# Altium footprint library WREL_AD10_Ben.PcbLib: 135 footprints (part 6 of 9)
Each footprint in its own frame and in the unit in brackets; x right, y up, seen from the top. Pads: shape width x height; smd on the part's side, far side on the other; paste and mask are expansions set on the pad; w line width, h text height; cw(c..) or ccw(c..) is an arc to the next point about the centre after c.
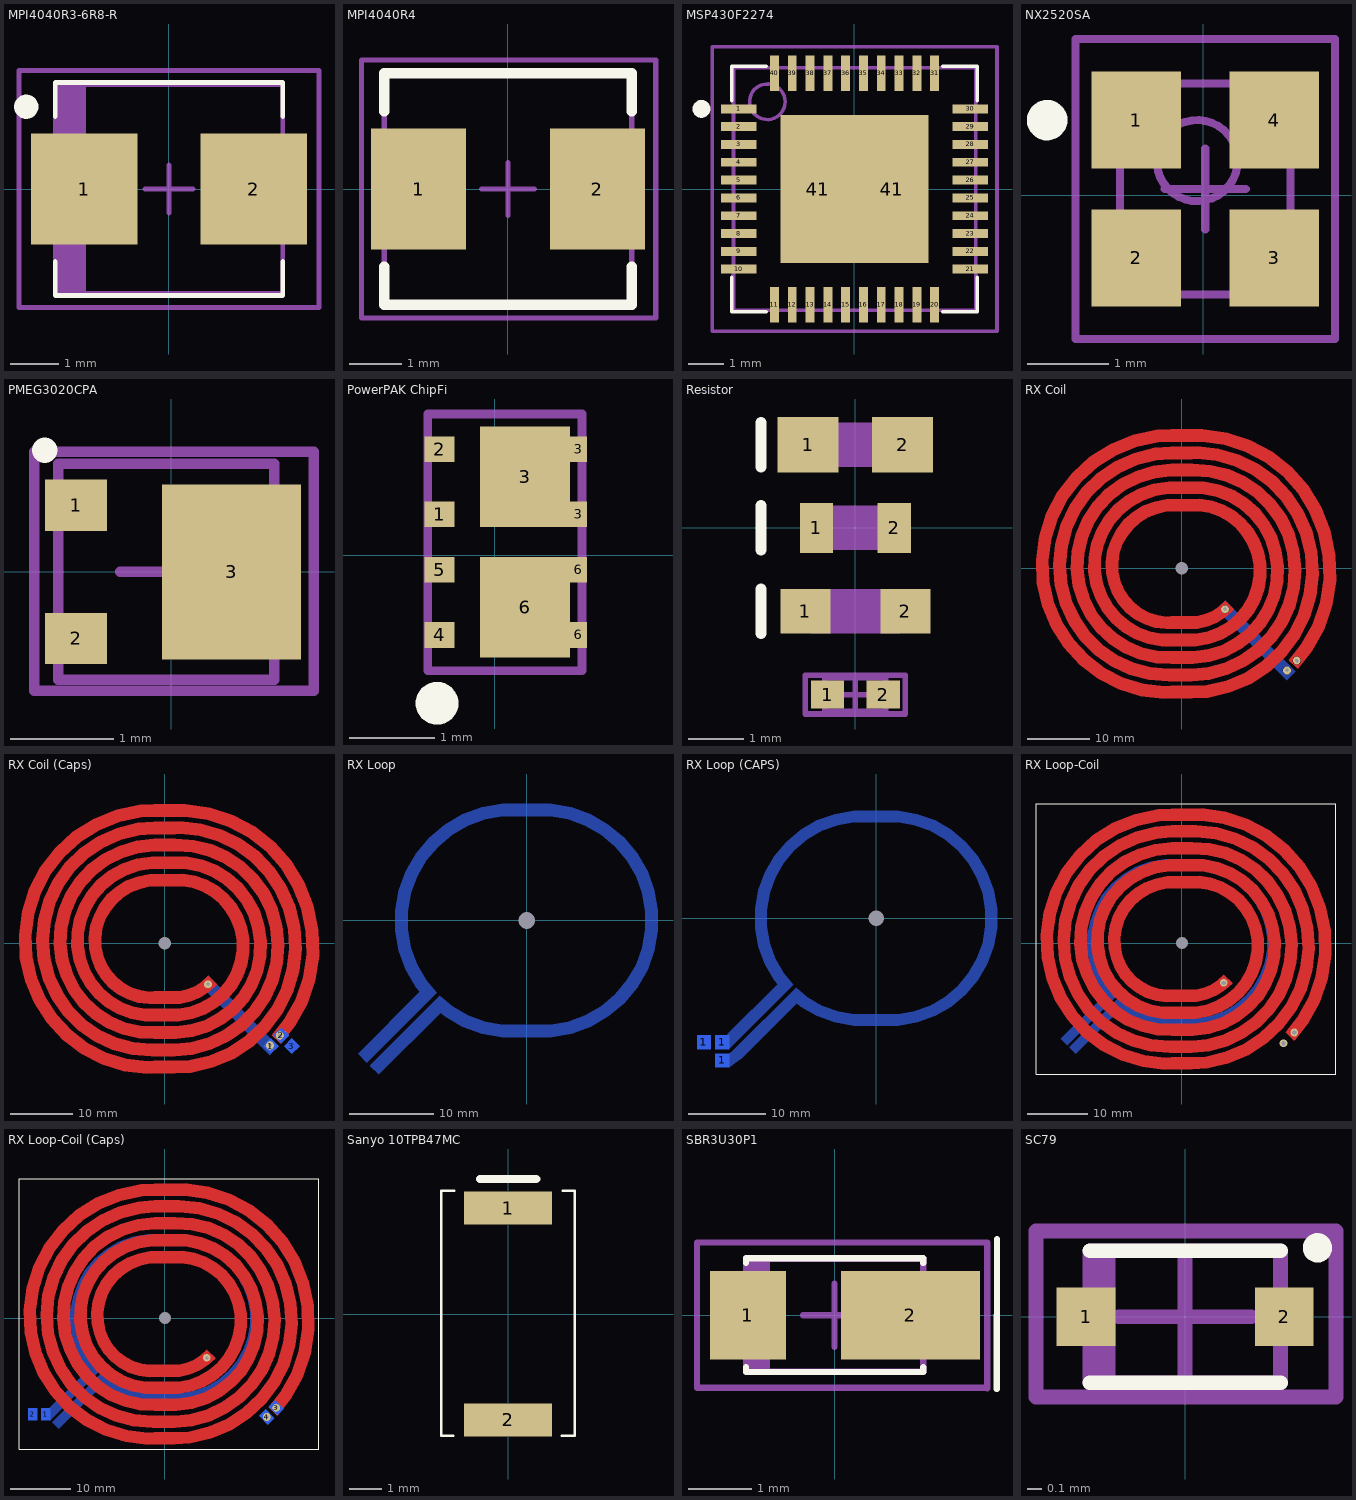
[diagram p5: the footprints below, top view; thin cyan lines are the x and y axes]

## MPI4040R3-6R8-R [mm] "INDUCTOR 6.8UH 2A 2 PAD SMD"
height 1.85
pads (2):
  rect 2.2x2.3 smd: 1(-1.75,0) 2(1.75,0)
Top Overlay:
  circle w0.25: c-2.95,1.7 r0.125
  lines w0.1: -2.35,-1.5 -2.35,-2.2 2.35,-2.2 2.35,-1.5 ; -2.35,1.5 -2.35,2.2 2.35,2.2 2.35,1.5
Mechanical 13:
  rectangle: -2.35,-2.155 -1.718,2.155
  lines w0.1: -2.35,-2.155 2.35,-2.155 2.35,2.155 -2.35,2.155 -2.35,-2.155
Mechanical 15:
  lines w0.1: -0.5,0 0.5,0 ; 0,-0.5 0,0.5 ; -3.1,-2.45 3.1,-2.45 3.1,2.45 -3.1,2.45 -3.1,-2.45
3D body: height 1.85, standoff 0, extent -2.35,-2.155 2.35,2.155

## MPI4040R4 [mm] "MPI4040R4"
height 2
pads (2):
  rect 1.8x2.3 smd: 1(-1.7,0) 2(1.7,0)
Top Overlay:
  lines w0.2: -2.35,-1.475 -2.35,-2.2 2.35,-2.2 2.35,-1.475 ; -2.35,1.475 -2.35,2.2 2.35,2.2 2.35,1.475
Mechanical 13:
  lines w0.1: -2.35,-2.155 2.35,-2.155 2.35,2.155 -2.35,2.155 -2.35,-2.155
Mechanical 15:
  lines w0.1: -0.5,0 0.5,0 ; 0,-0.5 0,0.5 ; -2.781,-2.45 2.807,-2.45 2.807,2.45 -2.781,2.45 -2.781,-2.45
3D body: height 2, standoff 0, extent -2.35,-2.155 2.35,2.155

## MSP430F2274 [mm]
pads (48):
  rect 1x0.25 smd: 1(-3.237,2.25) 2(-3.237,1.75) 3(-3.237,1.25) 4(-3.237,0.75) 5(-3.237,0.25) 6(-3.237,-0.25) 7(-3.237,-0.75) 8(-3.237,-1.25) 9(-3.237,-1.75) 10(-3.237,-2.25) 21(3.263,-2.25) 22(3.263,-1.75) 23(3.263,-1.25) 24(3.263,-0.75) 25(3.263,-0.25) 26(3.263,0.25) 27(3.263,0.75) 28(3.263,1.25) 29(3.263,1.75) 30(3.263,2.25)
  rect 0.25x1 smd: 11(-2.237,-3.25) 12(-1.737,-3.25) 13(-1.237,-3.25) 14(-0.737,-3.25) 15(-0.237,-3.25) 16(0.263,-3.25) 17(0.763,-3.25) 18(1.263,-3.25) 19(1.763,-3.25) 20(2.263,-3.25) 31(2.263,3.25) 32(1.763,3.25) 33(1.263,3.25) 34(0.763,3.25) 35(0.263,3.25) 36(-0.237,3.25) 37(-0.737,3.25) 38(-1.237,3.25) 39(-1.737,3.25) 40(-2.237,3.25)
  rect 2.075x4.15 smd: 41(-1.025,0) 41(1.05,0)
  rect 2.075x0 smd: 41(-1.025,0) 45(1.05,0)
  rect 0x2.075 smd: 43(0.013,1.038) 44(0.013,1.038) 47(0.013,-1.037) 48(0.013,-1.037)
Top Overlay:
  circle w0.25: c-4.287,2.25 r0.125
  lines w0.1: -3.437,-2.475 -3.437,-3.45 -2.462,-3.45 ; -3.437,2.475 -3.437,3.45 -2.462,3.45 ; 2.488,-3.45 3.463,-3.45 3.463,-2.475 ; 2.488,3.45 3.463,3.45 3.463,2.475
Mechanical 13:
  circle w0.1: c-2.437,2.45 r0.5
  lines w0.1: -3.387,-3.4 3.413,-3.4 3.413,3.4 -3.387,3.4 -3.387,-3.4
Mechanical 15:
  lines w0.1: -0.487,0 0.513,0 ; 0.013,-0.5 0.013,0.5 ; -3.987,-4 4.013,-4 4.013,4 -3.987,4 -3.987,-4
3D body: height 0.63, standoff 0.3, extent -3.387,-3.4 3.413,3.4

## NX2520SA [mm]
pads (4):
  rect 1.1x1.2 smd: 1(-0.825,0.926) 2(-0.825,-0.774) 3(0.875,-0.774) 4(0.875,0.926)
Top Overlay:
  circle w0.25: c-1.925,0.926 r0.125
Mechanical 13:
  circle w0.1: c-0.075,0.426 r0.5
  lines w0.1: -1.025,-1.224 -1.025,1.376 1.075,1.376 1.075,-1.224 -1.025,-1.224
Mechanical 15:
  lines w0.1: -0.475,0.076 0.525,0.076 ; 0.025,-0.424 0.025,0.576 ; -1.575,-1.774 -1.575,1.926 1.625,1.926 1.625,-1.774 -1.575,-1.774
3D body: height 0.65, standoff 0, extent -1.025,-1.224 1.075,1.376

## PMEG3020CPA [mm] "2 A low VF dual MEGA Schottky barrier rectifier"
height 0.65
pads (3):
  rect 0.6x0.5 smd: 1(-0.927,0.648) 2(-0.927,-0.648)
  rect 1.35x1.7 smd: 3(0.584,0)
Top Overlay:
  lines w0.25: -1.232,1.181 ccw(c-1.357,1.183) -1.232,1.183
Mechanical 13:
  lines w0.1: -1.1,-1.05 1,-1.05 1,1.05 -1.1,1.05 -1.1,-1.05
Mechanical 15:
  lines w0.1: -0.5,0 0.5,0 ; 0,-0.5 0,0.5 ; -1.333,-1.156 1.384,-1.156 1.384,1.168 -1.333,1.168 -1.333,-1.156
3D body: height 0.65, standoff 0, extent -1.1,-1.05 1,1.05

## PowerPAK ChipFi [mm] "PowerPAK ChipFET (Dual)"
pads (10):
  rect 0.35x0.3 smd: 1(-0.643,0.476) 2(-0.643,1.236) 4(-0.643,-0.932) 5(-0.643,-0.172)
  rect 1.05x1.175 smd: 3(0.356,0.913) 6(0.356,-0.61)
  rect 0.2x0.3 smd: 3(0.98,0.476) 3(0.98,1.236) 6(0.98,-0.932) 6(0.98,-0.172)
Top Overlay:
  circle w0.25: c-0.673,-1.731 r0.125
Mechanical 13:
  lines w0.1: -0.779,-1.352 -0.779,1.647 1.021,1.647 1.021,-1.352 -0.779,-1.352
3D body: height 1.1, standoff 0, extent -0.769,-1.358 1.025,1.636

## Resistor [mm]
pads (8):
  rect 0.9x0.8 smd: 1(-0.9,-1.5) 2(0.9,-1.5)
  rect 1.1x1 smd: 1(-0.85,1.5) 2(0.85,1.5)
  rect 0.6x0.9 smd: 1(-0.7,0) 2(0.7,0)
  rect 0.6x0.5 smd: 1(-0.5,-3) 2(0.5,-3)
Top Overlay:
  lines w0.2: -1.7,-1.9 -1.7,-1.1 ; -1.7,-0.4 -1.7,0.4 ; -1.7,1.1 -1.7,1.9
Mechanical 13:
  lines w0.1: -0.55,-3.3 0.55,-3.3 0.55,-2.7 -0.55,-2.7 -0.55,-3.3
Mechanical 15:
  rectangle: -0.8,-1.9 0.8,-1.1
  rectangle: -0.8,-0.4 0.8,0.4
  rectangle: -0.8,1.1 0.8,1.9
  lines w0.1: -0.3,-3 0.3,-3 ; 0,-3.3 0,-2.7 ; -0.9,-3.35 0.9,-3.35 0.9,-2.65 -0.9,-2.65 -0.9,-3.35
3D body: height 1.3, standoff 0, extent -0.55,-3.3 0.55,-2.7

## RX Coil [mm] "Songnan RX Coil (4.8 x 4.3cm) only"
pads (1):
  round 0 hole 2 unplated: 0(0,0)
via 16.942,-16.434 diameter 1.27 hole 0.508
via 18.517,-14.884 diameter 1.27 hole 0.508
via 6.985,-6.604 diameter 1.27 hole 0.508
Top Layer:
  region: 393 vertices and 2 holes, not listed, extent -23.47,-21.031 24.841,22.403
Bottom Layer:
  region: 18.276,-16.548 18.276,-16.675 16.942,-18.009 5.627,-6.719 5.627,-6.592 6.985,-5.258 hole: 6.985,-5.957 6.737,-6.006 6.527,-6.146 6.387,-6.356 6.338,-6.604 6.387,-6.852 6.527,-7.062 6.737,-7.202 6.985,-7.251 7.233,-7.202 7.443,-7.062 7.583,-6.852 7.632,-6.604 7.583,-6.356 7.443,-6.146 7.233,-6.006 hole: 16.942,-15.786 16.694,-15.836 16.484,-15.976 16.344,-16.186 16.294,-16.434 16.344,-16.682 16.484,-16.892 16.694,-17.032 16.942,-17.081 17.19,-17.032 17.4,-16.892 17.54,-16.682 17.589,-16.434 17.54,-16.186 17.4,-15.976 17.19,-15.836

## RX Coil (Caps) [mil] "Songnan RX Coil (4.8 x 4.3cm) with series or parallel caps"
pads (4):
  round 0 hole 78.74 unplated: 0(0,0)
  rect 70x70 smd far side rot 135: 1(673,-652.5) 2(738.5,-584) 3(806.5,-652)
via 667,-647 diameter 50 hole 20
via 729,-586 diameter 50 hole 20
via 275,-260 diameter 50 hole 20
Top Layer:
  region: 393 vertices and 0 holes, not listed, extent -924,-828 978,882
Bottom Layer:
  region: 275.01,-206.99 672.01,-603.99 623.5,-652.5 671,-700 671,-705 666.99,-709.01 221.51,-264.5 221.53,-259.5 hole: 275,-234.51 265.25,-236.45 256.98,-241.98 251.45,-250.25 249.51,-260 251.45,-269.75 256.98,-278.02 265.25,-283.55 275,-285.49 284.75,-283.55 293.02,-278.02 298.55,-269.75 300.49,-260 298.55,-250.25 293.02,-241.98 284.75,-236.45

## RX Loop [mm] "Songnan RX Loop (3.1 x 2.8cm) only"
pads (1):
  round 0 hole 2 unplated: 0(0,0)
Bottom Layer:
  region: 5.359,13.513 7.645,12.675 9.754,11.455 11.633,9.881 13.208,8.026 14.427,5.893 15.24,3.607 15.672,1.219 15.672,-1.219 15.24,-3.607 14.427,-5.893 13.208,-8.026 11.633,-9.881 9.754,-11.455 7.645,-12.675 5.359,-13.513 2.946,-13.945 -2.972,-13.945 -5.359,-13.513 -7.671,-12.675 -9.779,-11.455 -10.287,-11.024 -17.653,-18.364 -18.655,-17.386 -18.656,-17.259 -10.389,-8.992 -8.915,-10.236 -7.036,-11.328 -4.978,-12.065 -2.845,-12.446 2.819,-12.446 4.953,-12.065 7.01,-11.328 8.89,-10.236 10.566,-8.814 11.963,-7.163 13.056,-5.258 13.792,-3.226 14.173,-1.067 14.173,1.067 13.792,3.226 13.056,5.258 11.963,7.163 10.566,8.814 8.89,10.236 7.01,11.328 4.953,12.065 2.819,12.446 -2.845,12.446 -4.978,12.065 -7.036,11.328 -8.915,10.236 -10.592,8.814 -11.989,7.163 -13.081,5.258 -13.818,3.226 -14.199,1.067 -14.199,-1.067 -13.818,-3.226 -13.081,-5.258 -11.989,-7.163 -10.744,-8.636 -19.075,-16.967 -20.142,-15.9 -12.776,-8.534 -13.208,-8.026 -14.427,-5.893 -15.265,-3.607 -15.697,-1.219 -15.697,1.219 -15.265,3.607 -14.427,5.893 -13.208,8.026 -11.659,9.881 -9.779,11.455 -7.671,12.675 -5.359,13.513 -2.972,13.945 2.946,13.945

## RX Loop (CAPS) [mil] "Songnan RX Loop (3.1 x 2.8cm) with parallel or series caps"
pads (4):
  round 0 hole 78.74 unplated: 0(0,0)
  rect 70x70 smd far side: 1(-879.5,-633) 1(-786,-726) 1(-786,-633)
Bottom Layer:
  region: -751,-761 -687.22,-715.25 -731.08,-676.04 -751,-691 -789.07,-735.38
  region: 211,532 301,499 384,451 458,389 520,316 568,232 600,142 617,48 617,-48 600,-142 568,-232 520,-316 458,-389 384,-451 301,-499 211,-532 116,-549 -117,-549 -211,-532 -302,-499 -385,-451 -405,-434 -687.22,-715.25 -692.22,-715.23 -731.06,-676.06 -409,-354 -351,-403 -277,-446 -196,-475 -112,-490 111,-490 195,-475 276,-446 350,-403 416,-347 471,-282 514,-207 543,-127 558,-42 558,42 543,127 514,207 471,282 416,347 350,403 276,446 195,475 111,490 -112,490 -196,475 -277,446 -351,403 -417,347 -472,282 -515,207 -544,127 -559,42 -559,-42 -544,-127 -515,-207 -472,-282 -423,-340 -746.38,-663.38 -751,-661.47 -751,-598 -758.47,-598 -760.38,-593.38 -503,-336 -520,-316 -568,-232 -601,-142 -618,-48 -618,48 -601,142 -568,232 -520,316 -459,389 -385,451 -302,499 -211,532 -117,549 116,549

## RX Loop-Coil [mm] "Songnan RX Loop (3.1 x 2.8cm) and Coil (4.8 x 4.3cm)"
pads (1):
  round 0 hole 2 unplated: 0(0,0)
via 6.985,-6.604 diameter 1.27 hole 0.711
via 16.891,-16.637 diameter 1.27 hole 0.711
via 18.669,-14.859 diameter 1.27 hole 0.711
Top Layer:
  region: 393 vertices and 0 holes, not listed, extent -23.47,-21.031 24.841,22.403
Mid-Layer 1:
  region: 18.276,-16.548 18.276,-16.675 16.942,-18.009 5.627,-6.719 5.627,-6.592 6.985,-5.258
Bottom Layer:
  region: 5.359,13.513 7.645,12.675 9.754,11.455 11.633,9.881 13.208,8.026 14.427,5.893 15.24,3.607 15.672,1.219 15.672,-1.219 15.24,-3.607 14.427,-5.893 13.208,-8.026 11.633,-9.881 9.754,-11.455 7.645,-12.675 5.359,-13.513 2.946,-13.945 -2.972,-13.945 -5.359,-13.513 -7.671,-12.675 -9.779,-11.455 -10.287,-11.024 -17.653,-18.364 -18.655,-17.386 -18.656,-17.259 -10.389,-8.992 -8.915,-10.236 -7.036,-11.328 -4.978,-12.065 -2.845,-12.446 2.819,-12.446 4.953,-12.065 7.01,-11.328 8.89,-10.236 10.566,-8.814 11.963,-7.163 13.056,-5.258 13.792,-3.226 14.173,-1.067 14.173,1.067 13.792,3.226 13.056,5.258 11.963,7.163 10.566,8.814 8.89,10.236 7.01,11.328 4.953,12.065 2.819,12.446 -2.845,12.446 -4.978,12.065 -7.036,11.328 -8.915,10.236 -10.592,8.814 -11.989,7.163 -13.081,5.258 -13.818,3.226 -14.199,1.067 -14.199,-1.067 -13.818,-3.226 -13.081,-5.258 -11.989,-7.163 -10.744,-8.636 -19.075,-16.967 -20.142,-15.9 -12.776,-8.534 -13.208,-8.026 -14.427,-5.893 -15.265,-3.607 -15.697,-1.219 -15.697,1.219 -15.265,3.607 -14.427,5.893 -13.208,8.026 -11.659,9.881 -9.779,11.455 -7.671,12.675 -5.359,13.513 -2.972,13.945 2.946,13.945
Top Overlay:
  lines w0.127: -24.257,-21.793 -24.257,23.19 25.629,23.19 25.629,-21.793 -24.257,-21.793

## RX Loop-Coil (Caps) [mil] "Songnan RX Loop (3.1 x 2.8cm) and Coil (4.8 x 4.3cm) with Capacitor banks"
pads (5):
  round 0 hole 78.74 unplated: 0(0,0)
  rect 60x80 smd far side: 1(-778.9,-628.03) 2(-864,-628)
  rect 80x60 smd far side rot 135: 3(729,-586) 4(667,-647)
via 667,-647 diameter 50 hole 20
via 729,-586 diameter 50 hole 20
via 275,-260 diameter 50 hole 20
Top Layer:
  region: 393 vertices and 0 holes, not listed, extent -924,-828 978,882
Mid-Layer 1:
  region: 719.52,-651.5 719.52,-656.5 666.99,-709.01 221.52,-264.51 221.54,-259.51 275.01,-206.99
Bottom Layer:
  region: 211,532 301,499 384,451 458,389 520,316 568,232 600,142 617,48 617,-48 600,-142 568,-232 520,-316 458,-389 384,-451 301,-499 211,-532 116,-549 -117,-549 -211,-532 -302,-499 -385,-451 -405,-434 -695,-723 -734.45,-684.48 -734.48,-679.48 -409,-354 -351,-403 -277,-446 -196,-475 -112,-490 111,-490 195,-475 276,-446 350,-403 416,-347 471,-282 514,-207 543,-127 558,-42 558,42 543,127 514,207 471,282 416,347 350,403 276,446 195,475 111,490 -112,490 -196,475 -277,446 -351,403 -417,347 -472,282 -515,207 -544,127 -559,42 -559,-42 -544,-127 -515,-207 -472,-282 -423,-340 -751,-668 -793,-626 -503,-336 -520,-316 -568,-232 -601,-142 -618,-48 -618,48 -601,142 -568,232 -520,316 -459,389 -385,451 -302,499 -211,532 -117,549 116,549
  region: -695.12,-723.21 -689.08,-717.04 -731.08,-676.04 -737.12,-682.21
Top Overlay:
  lines w5: -955,-858 1009,-858 1009,913 -955,913 -955,-858

## Sanyo 10TPB47MC [mm] "Cap: Body 6 x 3.2 mm"
height 2.8
pads (2):
  rect 2.7x1 smd: 1(0,3.25) 2(0,-3.25)
Top Overlay:
  lines w0.076: -2.057,-3.734 -1.676,-3.734 ; -2.057,-3.708 -2.057,3.785 -1.651,3.785 ; 1.651,-3.734 2.05,-3.734 2.05,3.785 1.676,3.785
  lines w0.254: -0.864,4.14 0.864,4.14
3D body: height 2.8, standoff 0, extent -1.6,-3.022 1.6,2.972

## SBR3U30P1 [mm] "PowerDI®123"
height 1
pads (2):
  rect 1.2x1.4 smd: 1(-1.372,0)
  rect 2.2x1.4 smd: 2(1.2,0)
Top Overlay:
  lines w0.1: -1.4,-0.825 -1.4,-0.9 1.4,-0.9 1.4,-0.825 ; -1.4,0.825 -1.4,0.9 1.4,0.9 1.4,0.825 ; 2.565,-1.168 2.568,1.205
Mechanical 13:
  rectangle: -1.4,-0.89 -1.023,0.89
  lines w0.1: -1.4,-0.89 1.4,-0.89 1.4,0.89 -1.4,0.89 -1.4,-0.89
Mechanical 15:
  lines w0.1: -0.5,0 0.5,0 ; 0,-0.5 0,0.5 ; 2.413,-1.157 2.413,1.143 ; 2.413,-1.15 -2.175,-1.15 -2.175,1.15 2.413,1.15
3D body: height 1, standoff 0, extent -1.4,-0.89 1.4,0.89

## SC79 [mm] "SC79"
height 0.59
pads (2):
  rect 0.4x0.4 smd: 1(-0.675,0) 2(0.675,0)
Top Overlay:
  circle w0.1: c0.903,0.47 r0.05
  lines w0.1: -0.65,-0.45 0.65,-0.45 ; -0.65,0.45 0.65,0.45
Mechanical 13:
  rectangle: -0.65,-0.45 -0.475,0.45
  lines w0.1: -0.65,-0.45 0.65,-0.45 0.65,0.45 -0.65,0.45 -0.65,-0.45
Mechanical 15:
  lines w0.1: -0.45,0 0.45,0 ; 0,-0.45 0,0.45 ; -1.016,-0.546 1.029,-0.546 1.029,0.584 -1.016,0.584 -1.016,-0.546
3D body: height 0.59, standoff 0, extent -0.65,-0.45 0.65,0.45